# EAGLE library part EDGE-LIBRARY_DMP3013SFV-7 (library Local Compute Module)
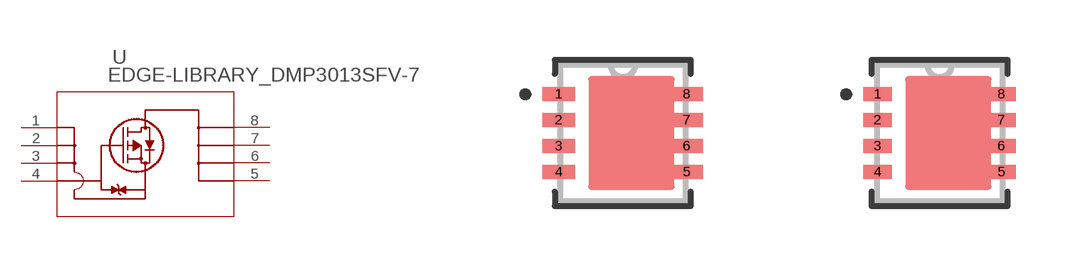
[diagram p9: symbol with the pads of EDGE-LIBRARY_POWERDI3333-8_UX_DIO; footprints EDGE-LIBRARY_POWERDI3333-8_UX_DIO, EDGE-LIBRARY_POWERDI3333-8_UX_DIO-L]

Designator prefix U

## EDGE-LIBRARY_DMP3013SFV-7 (DIGIKEY: DMP3013SFV-7DITR-ND; MANUFACTURE: Diode Inc; MPN: DMP3013SFV-7)  [EDGE-LIBRARY_POWERDI3333-8_UX_DIO]
1  S_2  pas
2  S_3  pas
3  S  pas
4  G  pas
5  D_2  pas
6  D_3  pas
7  D_4  pas
8  D  pas

## EDGE-LIBRARY_DMP3013SFV-7POWERDI3333-8_UX_DIO-L (BUILT_BY: EMA_Cory; COPYRIGHT: Copyright (C) 2018 Accelerated Designs. All rights reserved; DATASHEET: https://www.diodes.com/assets/Datasheets/DMP3013SFV.pdf; MANUFACTURER_PART_NUMBER: DMP3013SFV-7; SOURCELIBRARY: Diodes_Inc_2020-06-18; VENDOR: Diodes Inc)  [EDGE-LIBRARY_POWERDI3333-8_UX_DIO-L]
Pads as for EDGE-LIBRARY_POWERDI3333-8_UX_DIO

## EDGE-LIBRARY_DMP3013SFV-7POWERDI3333-8_UX_DIO-M (BUILT_BY: EMA_Cory; COPYRIGHT: Copyright (C) 2018 Accelerated Designs. All rights reserved; DATASHEET: https://www.diodes.com/assets/Datasheets/DMP3013SFV.pdf; MANUFACTURER_PART_NUMBER: DMP3013SFV-7; SOURCELIBRARY: Diodes_Inc_2020-06-18; VENDOR: Diodes Inc)  [EDGE-LIBRARY_POWERDI3333-8_UX_DIO-M]
Pads as for EDGE-LIBRARY_POWERDI3333-8_UX_DIO

## Footprint EDGE-LIBRARY_POWERDI3333-8_UX_DIO (pad centres in mm)
smd 0.813 x 0.356: 1 -1.6,0.975; 2 -1.6,0.325; 3 -1.6,-0.325; 4 -1.6,-0.975; 5 1.6,-0.975; 6 1.6,-0.325; 7 1.6,0.325; 8 1.6,0.975

## Footprint EDGE-LIBRARY_POWERDI3333-8_UX_DIO-L (pad centres in mm)
smd 0.711 x 0.356: 1 -1.549,0.975; 2 -1.549,0.325; 3 -1.549,-0.325; 4 -1.549,-0.975; 5 1.549,-0.975; 6 1.549,-0.325; 7 1.549,0.325; 8 1.549,0.975

## Footprint EDGE-LIBRARY_POWERDI3333-8_UX_DIO-M (pad centres in mm)
smd 0.914 x 0.356: 1 -1.651,0.975; 2 -1.651,0.325; 3 -1.651,-0.325; 4 -1.651,-0.975; 5 1.651,-0.975; 6 1.651,-0.325; 7 1.651,0.325; 8 1.651,0.975